# EAGLE library part MOLEX_51281-0594 (library 5pos_Molex - 51281-0594)
MOLX-51281-0594
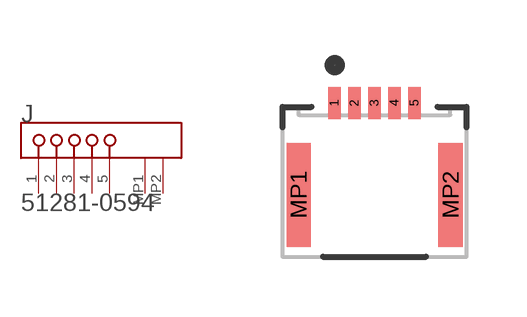
[diagram p0: symbol with the pads of MOLEX_51281-0594_0; footprint MOLEX_51281-0594_0]

Designator prefix J

## MOLEX_51281-0594MOLEX_51281-0594_0_0 (CIIVA_IDS: 1130016; CIRCUITS_LOADED: 5; COMPONENT_LINK_1_DESCRIPTION: Manufacturer URL; COMPONENT_LINK_1_URL: http://www.molex.com/molex/index.jsp; COMPONENT_LINK_3_DESCRIPTION: Package Specification; COMPONENT_LINK_3_URL: http://www.molex.com/pdm_docs/sd/512810594_sd.pdf; CONTACT_POSITION: Dual; CURRENT_MAX_PER_CONTACT: 0.5A; DATASHEET: http://www.molex.com/webdocs/datasheets/pdf/en-us/0512810594_FFC_FPC_CONNECTORS.pdf; DURABILITY_MATING_CYCLES_MAX: 20; ENTRY_ANGLE: 90degrees Angle; FOOTPRINT_VARIANT_NAME_0: Manufacturer Recommended; IMPORTED: yes; IMPORTED_FROM: vault; IMPORT_TS: 1521844781; MATED_HEIGHT: 1.20mm; MATERIAL___METAL: Phosphor Bronze; MATERIAL___PLATING_MATING: Gold; MATERIAL___PLATING_TERMINATION: Tin; MF: Molex; MOUNTING_TECHNOLOGY: Surface Mount; MPN: 51281-0594; NUMBER_OF_ROWS: 1; ORIENTATION: Right Angle; PACKAGE: 51281-0594; PACKAGE_DESCRIPTION: 5-Lead FPC Connector, Pitch 0.5 mm; PACKAGE_VERSION: Rev. J, 10/2010; PACKING: Tape and Reel; PCB_LOCATOR: No; PCB_RETENTION: Yes; PITCH___MATING_INTERFACE: 0.50mm; POLARIZED_TO_PCB: Yes; PREFIX: J; RELEASE_DATE: 1411386760; ROHS: Yes; STACKABLE: No; VAULT_GUID: 423BD609-0CE7-41F1-9FC6-3DBED79964AE; VAULT_REVISION: EFD37861-5CD1-4BDD-9E5C-92869378D97E; VOLTAGE_MAX: 50V)  [MOLEX_51281-0594_0]
1  1  pas
2  2  pas
3  3  pas
4  4  pas
5  5  pas
MP1  MP1  pas
MP2  MP2  pas

## Footprint MOLEX_51281-0594_0 (pad centres in mm)
MOLX-51281-0594
smd 0.32 x 0.8: 1 -1,1.15; 2 -0.5,1.15; 3 0,1.15; 4 0.5,1.15; 5 1,1.15
smd 0.6 x 2.6: MP1 -1.9,-1.15; MP2 1.9,-1.15